# Altium schematic symbol library BSS138.SchLib: 1 symbol
Pins are listed as number, name and electrical type; pins without a type are passive.

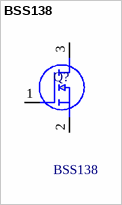
[diagram p0: symbol BSS138]

## BSS138
designator Q?
Compact industry standard SOT-23 surface mount package.; 0.22 A, 50 V. RDS(ON) = 3.5  @ VGS = 10 V. RDS(ON) = 6.0  @ VGS = 4.5 V; Rugged and Reliable.; High density cell design for extremely low RDS(ON).; Manufacturer_Name: onsemi; Geometry.Height: 1.2mm; Mouser Part Number: 512-BSS138; Mouser Price/Stock: https://www.mouser.co.uk/ProductDetail/onsemi-Fairchild/BSS138?qs=HK%252BeIG1iaahCeqBvjB4arg%3D%3D; Manufacturer_Part_Number: BSS138; Datasheet Link: https://www.onsemi.com/pub/Collateral/BSS138-D.PDF
footprint SOT95P240X120-3N
pins: 1 G, 2 S, 3 D